# EAGLE library part PROMINIV2 (library Jordan Boards)
This a Chinese model Arduino Pro Mini. It programs the same, but its layout has A4-7 as well as SPI along the bottom instead of inboard.
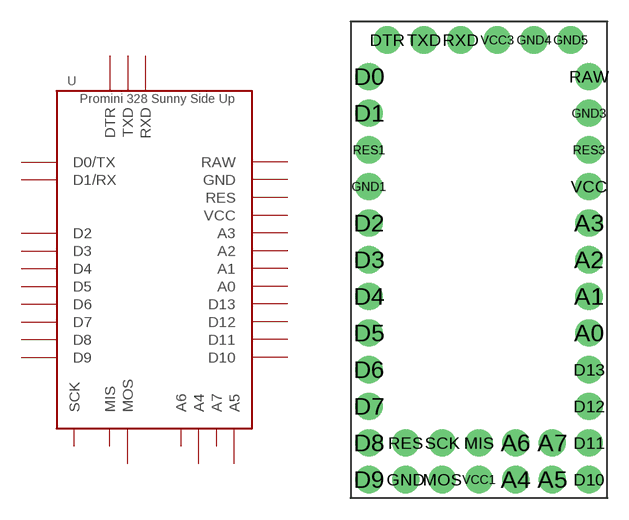
[diagram p1: symbol with the pads of PROMINIV2; footprint PROMINIV2]

Designator prefix -

## PROMINIV2  [PROMINIV2]
A0  A0
A1  A1
A2  A2
A3  A3
A4  A4
A5  A5
A6  A6
A7  A7
D0  D0/TX
D1  D1/RX
D2  D2
D3  D3
D4  D4
D5  D5
D6  D6
D7  D7
D8  D8
D9  D9
D10  D10
D11  D11
D12  D12
D13  D13
DTR  DTR
GND  GND
GND1  GND
GND3  GND
GND4  GND
GND5  GND
MIS  MIS
MOS  MOS
RAW  RAW
RES  RES
RES1  RES
RES3  RES
RXD  RXD
SCK  SCK
TXD  TXD
VCC  VCC
VCC1  VCC
VCC3  VCC

## Footprint PROMINIV2 (pad centres in mm)
drill 1.016 pad 1.88: A0 7.62,-6.35; A1 7.62,-3.81; A2 7.62,-1.27; A3 7.62,1.27; A4 2.54,-16.51; A5 5.08,-16.51; A6 2.54,-13.97; A7 5.08,-13.97; D0 -7.62,11.43; D1 -7.62,8.89; D2 -7.62,1.27; D3 -7.62,-1.27; D4 -7.62,-3.81; D5 -7.62,-6.35; D6 -7.62,-8.89; D7 -7.62,-11.43; D8 -7.62,-13.97; D9 -7.62,-16.51; D10 7.62,-16.51; D11 7.62,-13.97; D12 7.62,-11.43; D13 7.62,-8.89; DTR -6.35,13.97; GND -5.08,-16.51; GND1 -7.62,3.81; GND3 7.62,8.89; GND4 3.81,13.97; GND5 6.35,13.97; MIS 0,-13.97; MOS -2.54,-16.51; RAW 7.62,11.43; RES -5.08,-13.97; RES1 -7.62,6.35; RES3 7.62,6.35; RXD -1.27,13.97; SCK -2.54,-13.97; TXD -3.81,13.97; VCC 7.62,3.81; VCC1 0,-16.51; VCC3 1.27,13.97